# Altium footprint library 71E.PcbLib: 1 footprints
Each footprint in its own frame and in the unit in brackets; x right, y up, seen from the top. Pads: shape width x height; smd on the part's side, far side on the other; paste and mask are expansions set on the pad; w line width, h text height; cw(c..) or ccw(c..) is an arc to the next point about the centre after c.
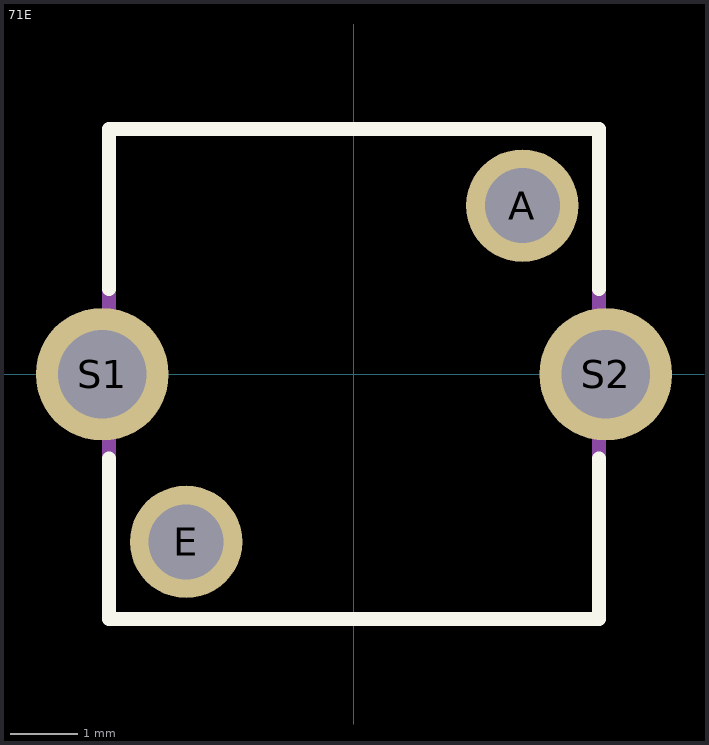
[diagram p0: the footprint, top view; thin cyan lines are the x and y axes]

## 71E [mil]
pads (4):
  round 66 hole 44: A(99,99) E(-98.43,-98.43)
  round 78 hole 52: S1(-147.64,0) S2(148,0)
Top Overlay:
  lines w8: -143.7,-49.21 -143.7,-143.7 144,-143.7 144,-49.21 ; -143.7,50 -143.7,144 144,144 144,50
Mechanical 16:
  lines w8: -143.7,-55.12 -143.7,56 ; 144,-55.12 144,56